# Altium schematic symbol library JMP1X1.SchLib: 1 symbol
Pins are listed as number, name and electrical type; pins without a type are passive.

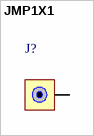
[diagram p0: symbol JMP1X1]

## JMP1X1
designator J?, comment Single Pin Jumper  (value not drawn)
Standard 1x Pin Jumper
footprint HDR1X1 (Connector; Header; 1 Position)
pins: 1